# EAGLE library part SIMHOLDER-8PIN (library components)
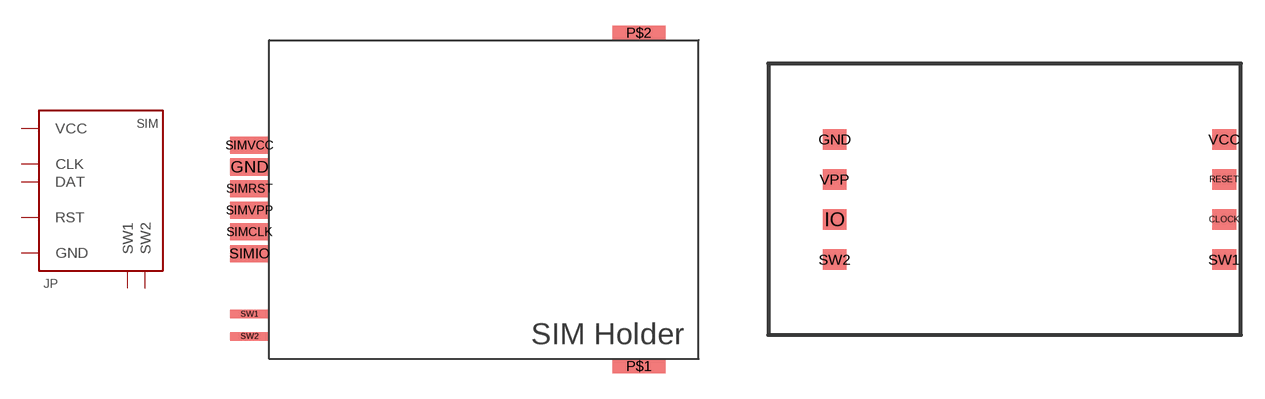
[diagram p25: symbol with the pads of SIMHOLDER-WITH-SWITCH; footprints SIMHOLDER-WITH-SWITCH, CCM03-SIMHOLDER]

Designator prefix JP

## SIMHOLDER-8PINPUSH  [SIMHOLDER-WITH-SWITCH]
GND  GND
SIMCLK  CLK
SIMIO  DAT
SIMRST  RST
SIMVCC  VCC
SW1  SW1
SW2  SW2

## SIMHOLDER-8PINHING (DESCRIPTION: Hinged SIM Card Holder; DIGIKEY-PN: 401-1722-1-ND)  [CCM03-SIMHOLDER]
CLOCK  CLK
GND  GND
IO  DAT
RESET  RST
SW1  SW1
SW2  SW2
VCC  VCC

## SIMHOLDER-8PINMICROSIM (DIGIKEY-PN: WM9260CT-ND)  [MOLEX-MICROSIM-0787270001]
C1  VCC
C2  RST
C3  CLK
C5  GND
C7  DAT
DCONT  SW1
DSPRING  SW2
GND1  GND
GND2  GND
GND3  GND
GND4  GND
GND5  GND
GND6  GND

## Footprint SIMHOLDER-WITH-SWITCH (pad centres in mm)
smd 2.3 x 1: GND 0,1.905; SIMCLK 0,-1.905; SIMIO 0,-3.175; SIMRST 0,0.635; SIMVCC 0,3.175; SIMVPP 0,-0.635
smd 3.1 x 0.85: P$1 22.85,-9.775; P$2 22.85,9.775
smd 2.3 x 0.5: SW1 0,-6.73; SW2 0,-8.03

## Footprint CCM03-SIMHOLDER (pad centres in mm)
smd 1.5 x 1.3: CLOCK 12.35,-1.27; GND -12.35,3.81; IO -12.35,-1.27; RESET 12.35,1.27; SW1 12.35,-3.81; SW2 -12.35,-3.81; VCC 12.35,3.81; VPP -12.35,1.27

## Footprint MOLEX-MICROSIM-0787270001 (pad centres in mm)
PCB Footprint for a molex 0787270001 Microsim card holder with push-pull insersion/removal and 1 pin insertion detection
smd 0.8 x 0.6: C1 7.62,4.38; C2 7.62,1.84; C3 7.62,-0.7; C4 7.62,-3.24; C5 0,4.38; C6 0,1.84; C7 0,-0.7; C8 0,-3.24
smd 0.85 x 0.8: DCONT -6.7,-4.98
smd 1.5 x 0.4: DSPRING 4.82,-6.54
smd 1.4 x 0.87: GND1 7.29,6.95; GND6 7.29,-6.95
smd 1.4 x 0.42: GND2 0.94,7.115; GND3 -5.32,7.115; GND4 -5.32,-7.115; GND5 0.94,-7.115